# Altium schematic symbol library Arduino_Uno_v1.SchLib: 34 symbols
Pins are listed as number, name and electrical type; pins without a type are passive.

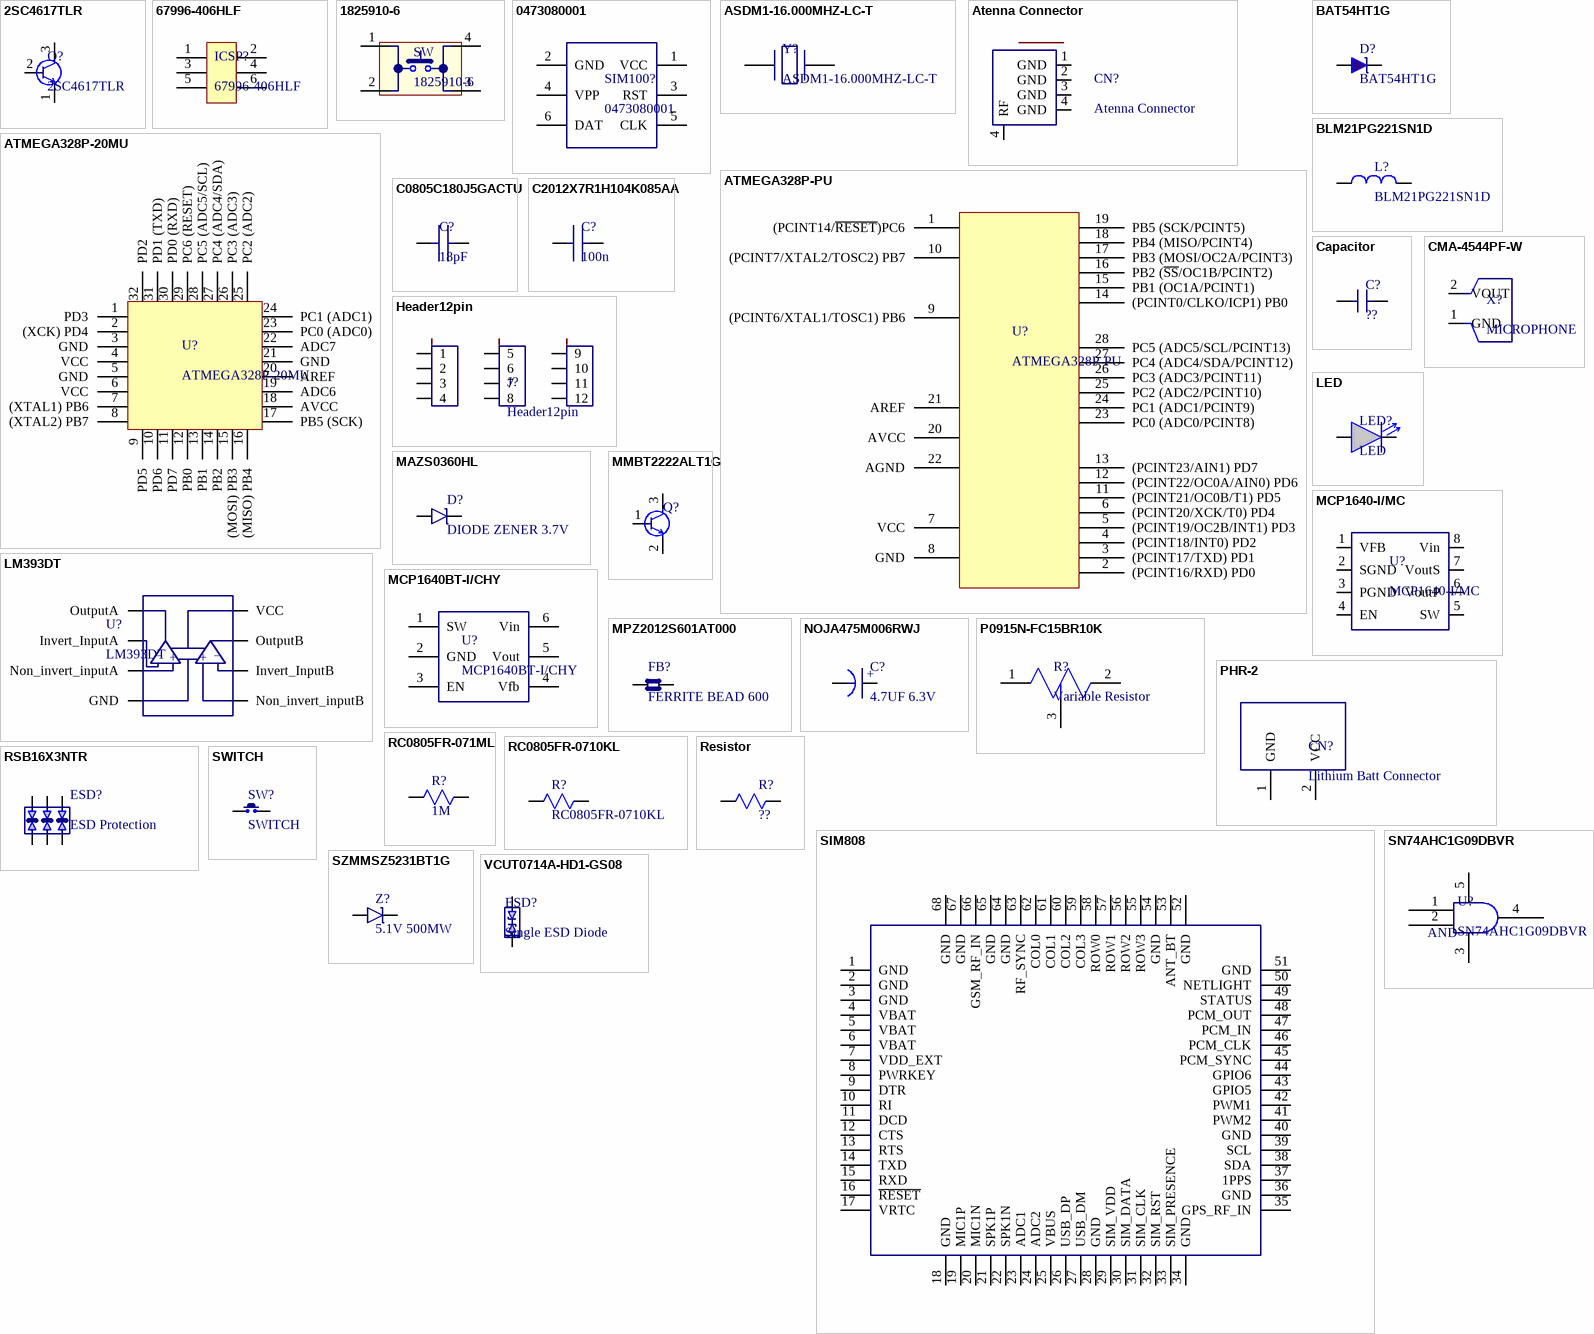
[diagram p0: symbols 2SC4617TLR to VCUT0714A-HD1-GS08]

## 2SC4617TLR
designator Q?
TRANS NPN 50V 0.15A SOT-416; Manufacturer: Rohm Semiconductor; Current - Collector (Ic) (Max): 150mA; Vce Saturation (Max) @ Ib, Ic: 400mV @ 5mA, 50mA; Current - Collector Cutoff (Max): 100nA (ICBO); DC Current Gain (hFE) (Min) @ Ic, Vce: 180 @ 1mA, 6V; Power - Max: 150mW; Frequency - Transition: 180MHz; Supplier 1: Digi-Key; Manufacturer Part Number: 2SC4617TLR; RoHS: RoHS Compliant; Category: Discrete Semiconductor Products; Stock 1: 15000; Pricing 1: 3000=0.05313, 6000=0.0462, 15000=0.03927, 30000=0.03696, 75000=0.03465, 150000=0.03003 (USD); Packaging: Tape & Reel (TR); Part Status: Active; Transistor Type: NPN; Voltage - Collector Emitter Breakdown (Max): 50V; Operating Temperature: 150°C (TJ); Mounting Type: Surface Mount; Package / Case: SC-75, SOT-416; Supplier Device Package: EMT3; ComponentLink1URL: http://rohmfs.rohm.com/en/products/databook/datasheet/discrete/transistor/bipolar/2sc2412kt146q-e.pdf; ComponentLink1Description: http://rohmfs.rohm.com/en/products/databook/datasheet/discrete/transistor/bipolar/2sc2412kt146q-e.pdf; Supplier Part Number 1: 2SC4617TLRTR-ND
pins: 1, 2, 3

## 67996-406HLF
designator ICSP?
CONN HEADER 6POS .100 STR TIN; Manufacturer: Amphenol FCI; Pitch - Mating: 0.100" (2.54mm); Style: Board to Board; Shrouding: Unshrouded; Number of Positions: 6; Number of Positions Loaded: All; Contact Length - Mating: 0.230" (5.84mm); Contact Length - Post: 0.095" (2.41mm); Overall Contact Length: 0.425" (10.80mm); Material Flammability Rating: UL94 V-0; Supplier 1: Digi-Key; Manufacturer Part Number: 67996-406HLF; RoHS: RoHS Compliant; Category: Connectors, Interconnects; Stock 1: 18877; Pricing 1: 1=0.27, 10=0.258, 100=0.1803, 500=0.15456, 1000=0.1288, 5000=0.1104, 10000=0.10304 (USD); Packaging: Bulk; Part Status: Active; Connector Type: Header; Contact Type: Male Pin; Number of Rows: 2; Row Spacing - Mating: 0.100" (2.54mm); Mounting Type: Through Hole; Termination: Solder; Fastening Type: -; Insulation Height: 0.100" (2.54mm); Contact Shape: Square; Contact Finish - Mating: Tin; Contact Finish Thickness - Mating: 100µin (2.54µm); Contact Finish - Post: Tin; Contact Material: Phosphor Bronze; Insulation Material: -; Features: -; Operating Temperature: -; Ingress Protection: -; Insulation Color: Black; Current Rating: -; Voltage Rating: -; Mated Stacking Heights: -; Contact Finish Thickness - Post: -; Applications: -; ComponentLink1URL: http://portal.fciconnect.com/Comergent//fci/drawing/67996.pdf; ComponentLink1Description: http://portal.fciconnect.com/Comergent//fci/drawing/67996.pdf; Supplier Part Number 1: 609-3218-ND
pins: 1 MISO, 2, 3, 4, 5, 6

## 1825910-6
designator SW
SWITCH TACTILE SPST-NO 0.05A 24V; Manufacturer: TE Connectivity ALCOSWITCH Switches; Switch Function: Off-Mom; Contact Rating @ Voltage: 0.05A @ 24VDC; Actuator Type: Standard; Actuator Height off PCB, Vertical: 5.00mm; Actuator Orientation: Top Actuated; Outline: 6.00mm x 6.00mm; Illumination: Non-Illuminated; Operating Force: 160gf; Actuator Material: Polybutylene Terephthalate (PBT); Switch Travel: 0.25mm; Mechanical Life: 100,000 Cycles; Supplier 1: Digi-Key; Manufacturer Part Number: 1825910-6; RoHS: RoHS Compliant; Category: Switches; Stock 1: 99237; Pricing 1: 1=0.1, 10=0.088, 25=0.0856, 50=0.0824, 100=0.0778, 250=0.07324, 500=0.07018, 1000=0.0534, 5000=0.04425 (USD); Packaging: Bulk; Part Status: Active; Circuit: SPST-NO; Mounting Type: Through Hole; Actuator Length, Right Angle: -; Termination Style: PC Pin; Illumination Type, Color: -; Illumination Voltage (Nominal): -; Ingress Protection: -; Features: -; Operating Temperature: -35°C ~ 85°C; ComponentLink1URL: http://www.te.com/commerce/DocumentDelivery/DDEController?Action=srchrtrv&DocNm=1825910&DocType=Customer+Drawing&DocLang=English; ComponentLink1Description: http://www.te.com/commerce/DocumentDelivery/DDEController?Action=srchrtrv&DocNm=1825910&DocType=Customer+Drawing&DocLang=English; Supplier Part Number 1: 450-1650-ND
pins: 1, 2, 3, 4

## 0473080001
designator SIM100?
CONN SIM CARD PUSH-PULL R/A SMD; Manufacturer: Molex, LLC; Number of Positions: 6; Connector Type: Connector; Insertion, Removal Method: Push In, Pull Out; Supplier 1: Digi-Key; Manufacturer Part Number: 0473080001; RoHS: RoHS Compliant; Category: Connectors, Interconnects; Stock 1: 12000; Pricing 1: 1000=0.2772, 2000=0.2688, 3000=0.252, 5000=0.2436, 10000=0.2268, 25000=0.2184 (USD); Packaging: Tape & Reel (TR); Part Status: Active; Card Type: SIM Card; Ejector Side: -; Mounting Type: Surface Mount, Right Angle; Features: -; Height Above Board: 0.079" (2.00mm); Mounting Feature: Normal, Standard - Top; Contact Finish: Gold; Contact Finish Thickness: 19.7µin (0.50µm); ComponentLink1URL: http://www.molex.com/pdm_docs/sd/473080001_sd.pdf; ComponentLink1Description: http://www.molex.com/pdm_docs/sd/473080001_sd.pdf; Supplier Part Number 1: WM6699TR-ND
pins: 1 VCC, 2 GND, 3 RST, 4 VPP, 5 CLK, 6 DAT

## ASDM1-16.000MHZ-LC-T
designator Y?
OSC MEMS 16.000MHZ CMOS SMD; Manufacturer: Abracon LLC; Frequency: 16MHz; Function: Standby (Power Down); Output: LVCMOS; Voltage - Supply: 3.3V; Frequency Stability: ±50ppm; Current - Supply (Max): 10mA; Current - Supply (Disable) (Max): 10µA; Supplier 1: Digi-Key; Manufacturer Part Number: ASDM1-16.000MHZ-LC-T; RoHS: RoHS Compliant; Category: Crystals, Oscillators, Resonators; Stock 1: 1000; Pricing 1: 1000=1.1505, 3000=1.092, 5000=1.053 (USD); Packaging: Tape & Reel (TR); Part Status: Active; Type: MEMS (Silicon); Operating Temperature: -40°C ~ 85°C; Ratings: -; Mounting Type: Surface Mount; Package / Case: 4-SMD, No Lead; Size / Dimension: 0.098" L x 0.079" W (2.50mm x 2.00mm); Height - Seated (Max): 0.035" (0.90mm); ComponentLink1URL: http://www.abracon.com/Oscillators/ASDM.pdf; ComponentLink1Description: http://www.abracon.com/Oscillators/ASDM.pdf; Supplier Part Number 1: 535-9787-2-ND
pins: 1, 2

## Atenna Connector
designator CN?
pins: 1 GND, 2 GND, 3 GND, 4 GND, 4 RF

## ATMEGA328P-20MU
designator U?
IC MCU 8BIT 32KB FLASH 32SMD; Manufacturer: Microchip Technology; Manufacturer Part Number: ATMEGA328P-PU; Core Processor: AVR; Core Size: 8-Bit; Speed: 20MHz; Connectivity: I²C, SPI, UART/USART; Peripherals: Brown-out Detect/Reset, POR, PWM, WDT; Number of I/O: 23; Program Memory Size: 32KB (16K x 16); EEPROM Size: 1K x 8; RAM Size: 2K x 8; Voltage - Supply (Vcc/Vdd): 1.8 V ~ 5.5 V; Data Converters: A/D 6x10b; Oscillator Type: Internal; Supplier 1: Digi-Key; RoHS: RoHS Compliant; Category: Integrated Circuits (ICs); Stock 1: 17084; Pricing 1: 1=2.14, 25=1.9672, 100=1.7819 (USD); Packaging: Tube; Part Status: Active; Program Memory Type: FLASH; Operating Temperature: -40°C ~ 85°C (TA); Package / Case: 28-DIP (0.300", 7.62mm); Supplier Device Package: 28-PDIP; ComponentLink1URL: http://www.atmel.com/images/atmel-8271-8-bit-avr-microcontroller-atmega48a-48pa-88a-88pa-168a-168pa-328-328p_datasheet_summary.pdf; ComponentLink1Description: http://www.atmel.com/images/atmel-8271-8-bit-avr-microcontroller-atmega48a-48pa-88a-88pa-168a-168pa-328-328p_datasheet_summary.pdf; Supplier Part Number 1: ATMEGA328P-PU-ND
pins: 1 PD3, 2 (XCK) PD4, 3 GND, 4 VCC, 5 GND, 6 VCC, 7 (XTAL1) PB6, 8 (XTAL2) PB7, 9 PD5, 10 PD6, 11 PD7, 12 PB0, 13 PB1, 14 PB2, 15 (MOSI) PB3, 16 (MISO) PB4, 17 PB5 (SCK) , 18 AVCC, 19 ADC6, 20 AREF, 21 GND, 22 ADC7, 23 PC0 (ADC0) , 24 PC1 (ADC1) , 25 PC2 (ADC2)  , 26 PC3 (ADC3), 27 PC4 (ADC4/SDA)   , 28 PC5 (ADC5/SCL) , 29 PC6 (RESET) , 30 PD0 (RXD), 31 PD1 (TXD) , 32 PD2

## ATMEGA328P-PU
designator U?
IC MCU 8BIT 32KB FLASH 28DIP; Manufacturer: Microchip Technology; Core Processor: AVR; Core Size: 8-Bit; Speed: 20MHz; Connectivity: I²C, SPI, UART/USART; Peripherals: Brown-out Detect/Reset, POR, PWM, WDT; Number of I/O: 23; Program Memory Size: 32KB (16K x 16); EEPROM Size: 1K x 8; RAM Size: 2K x 8; Voltage - Supply (Vcc/Vdd): 1.8 V ~ 5.5 V; Data Converters: A/D 6x10b; Oscillator Type: Internal; Supplier 1: Digi-Key; Manufacturer Part Number: ATMEGA328P-PU; RoHS: RoHS Compliant; Category: Integrated Circuits (ICs); Stock 1: 17084; Pricing 1: 1=2.14, 25=1.9672, 100=1.7819 (USD); Packaging: Tube; Part Status: Active; Program Memory Type: FLASH; Operating Temperature: -40°C ~ 85°C (TA); Package / Case: 28-DIP (0.300", 7.62mm); Supplier Device Package: 28-PDIP; ComponentLink1URL: http://www.atmel.com/images/atmel-8271-8-bit-avr-microcontroller-atmega48a-48pa-88a-88pa-168a-168pa-328-328p_datasheet_summary.pdf; ComponentLink1Description: http://www.atmel.com/images/atmel-8271-8-bit-avr-microcontroller-atmega48a-48pa-88a-88pa-168a-168pa-328-328p_datasheet_summary.pdf; Supplier Part Number 1: ATMEGA328P-PU-ND
footprint 28_DIP_ATmega48A_PU
pins: 1 (PCINT14/~{RESET})PC6, 2 (PCINT16/RXD) PD0, 3 (PCINT17/TXD) PD1, 4 (PCINT18/INT0) PD2, 5 (PCINT19/OC2B/INT1) PD3, 6 (PCINT20/XCK/T0) PD4, 7 VCC, 8 GND, 9 (PCINT6/XTAL1/TOSC1) PB6, 10 (PCINT7/XTAL2/TOSC2) PB7, 11 (PCINT21/OC0B/T1) PD5, 12 (PCINT22/OC0A/AIN0) PD6, 13 (PCINT23/AIN1) PD7, 14 (PCINT0/CLKO/ICP1) PB0, 15 PB1 (OC1A/PCINT1), 16 PB2 (~{SS}/OC1B/PCINT2), 17 PB3 (MOSI/OC2A/PCINT3), 18 PB4 (MISO/PCINT4), 19 PB5 (SCK/PCINT5), 20 AVCC, 21 AREF, 22 AGND, 23 PC0 (ADC0/PCINT8), 24 PC1 (ADC1/PCINT9), 25 PC2 (ADC2/PCINT10), 26 PC3 (ADC3/PCINT11), 27 PC4 (ADC4/SDA/PCINT12), 28 PC5 (ADC5/SCL/PCINT13)

## BAT54HT1G
designator D?
DIODE SCHOTTKY 30V 200MA SOD323; Manufacturer: ON Semiconductor; Current - Average Rectified (Io): 200mA (DC); Voltage - Forward (Vf) (Max) @ If: 800mV @ 100mA; Speed: Small Signal =< 200mA (Io), Any Speed; Current - Reverse Leakage @ Vr: 2µA @ 25V; Capacitance @ Vr, F: 10pF @ 1V, 1MHz; Supplier 1: Digi-Key; Manufacturer Part Number: BAT54HT1G; RoHS: RoHS Compliant; Category: Discrete Semiconductor Products; Stock 1: 90000; Pricing 1: 3000=0.05237, 6000=0.04554, 15000=0.03871, 30000=0.03643, 75000=0.03416, 150000=0.0296 (USD); Packaging: Tape & Reel (TR); Part Status: Active; Diode Type: Schottky; Voltage - DC Reverse (Vr) (Max): 30V; Mounting Type: Surface Mount; Package / Case: SC-76, SOD-323; Supplier Device Package: SOD-323; Operating Temperature - Junction: -55°C ~ 150°C; ComponentLink1URL: http://www.onsemi.com/pub_link/Collateral/BAT54HT1-D.PDF; ComponentLink1Description: http://www.onsemi.com/pub_link/Collateral/BAT54HT1-D.PDF; Supplier Part Number 1: BAT54HT1GOSTR-ND
pins: 1 Cathode, 2 Anode

## BLM21PG221SN1D
designator L?
FERRITE BEAD 220 OHM 0805 1LN; Manufacturer: Murata Electronics North America; Filter Type: Power Line; Number of Lines: 1; Impedance @ Frequency: 220 Ohm @ 100MHz; Current Rating (Max): 2A; DC Resistance (DCR) (Max): 45 mOhm; Supplier 1: Digi-Key; Manufacturer Part Number: BLM21PG221SN1D; RoHS: RoHS Compliant; Category: Filters; Stock 1: 897655; Pricing 1: 1=0.1, 10=0.081, 25=0.0732, 50=0.0538, 100=0.0464, 250=0.03664, 500=0.03094, 1000=0.02605 (USD); Packaging: Cut Tape (CT); Part Status: Active; Ratings: -; Operating Temperature: -55°C ~ 125°C; Package / Case: 0805 (2012 Metric); Mounting Type: Surface Mount; Height (Max): 0.041" (1.05mm); Size / Dimension: 0.079" L x 0.049" W (2.00mm x 1.25mm); ComponentLink1URL: http://www.murata.com/en-us/products/productdata/8796738977822/ENFA0005.pdf; ComponentLink1Description: http://www.murata.com/en-us/products/productdata/8796738977822/ENFA0005.pdf; Supplier Part Number 1: 490-1054-1-ND
pins: 1, 2

## C0805C180J5GACTU
designator C?, comment 18pF
CAP CER 18PF 50V C0G/NP0 0805; Manufacturer: KEMET; Manufacturer Part Number: C0805C180J5GACTU; Tolerance: ±5%; Temperature Coefficient: C0G, NP0; Supplier 1: Digi-Key; RoHS: RoHS Compliant; Category: Capacitors; Stock 1: 179478; Pricing 1: 1=0.11, 10=0.076, 100=0.0357, 500=0.02504, 1000=0.02073 (USD); Packaging: Cut Tape (CT); Part Status: Active; Capacitance: 18pF; Voltage - Rated: 50V; Operating Temperature: -55°C ~ 125°C; Features: Low ESL; Ratings: -; Applications: General Purpose; Failure Rate: -; Mounting Type: Surface Mount, MLCC; Package / Case: 0805 (2012 Metric); Size / Dimension: 0.079" L x 0.049" W (2.00mm x 1.25mm); Height - Seated (Max): -; Thickness (Max): 0.035" (0.88mm); Lead Spacing: -; Lead Style: -; ComponentLink1URL: http://www.kemet.com/docfinder?Partnumber=C0805C180J5GACTU; ComponentLink1Description: http://www.kemet.com/docfinder?Partnumber=C0805C180J5GACTU; Supplier Part Number 1: 399-1112-1-ND
pins: 1, 2

## C2012X7R1H104K085AA
designator C?, comment 100n
CAP CER 0.1UF 50V X7R 0805; Manufacturer: TDK Corporation; Manufacturer Part Number: C2012X7R1H104K085AA; Capacitance: 0.1µF; Tolerance: ±10%; Supplier 1: Digi-Key; RoHS: RoHS Compliant; Category: Capacitors; Stock 1: 730772; Pricing 1: 1=0.11, 10=0.078, 100=0.0368, 1000=0.02134 (USD); Packaging: Cut Tape (CT); Part Status: Not For New Designs; Voltage - Rated: 50V; Temperature Coefficient: X7R; Operating Temperature: -55°C ~ 125°C; Features: Low ESL; Ratings: -; Applications: General Purpose; Failure Rate: -; Mounting Type: Surface Mount, MLCC; Package / Case: 0805 (2012 Metric); Size / Dimension: 0.079" L x 0.049" W (2.00mm x 1.25mm); Height - Seated (Max): -; Thickness (Max): 0.037" (0.95mm); Lead Spacing: -; Lead Style: -; ComponentLink1URL: https://product.tdk.com/info/en/catalog/datasheets/mlcc_commercial_general_en.pdf; ComponentLink1Description: https://product.tdk.com/info/en/catalog/datasheets/mlcc_commercial_general_en.pdf; Supplier Part Number 1: 445-7534-1-ND
pins: 1, 2

## Capacitor
designator C?, comment ??
Capacitor
pins: 1, 2

## CMA-4544PF-W
designator X?, comment MICROPHONE
MIC COND ANALOG OMNI -44DB; Manufacturer: CUI Inc.; Manufacturer Part Number: CMA-4544PF-W; Direction: Omnidirectional; Frequency Range: 20Hz ~ 20kHz; Sensitivity: -44dB ±2dB @ 94dB SPL; S/N Ratio: 60dB; Impedance: 2.2 kOhm; Voltage Range: 3 ~ 10V; Current - Supply: 500µA; Port Location: Top; Shape: Circular; Supplier 1: Digi-Key; RoHS: RoHS Compliant; Category: Audio Products; Stock 1: 40210; Pricing 1: 1=0.82, 10=0.708, 25=0.5692, 50=0.506, 100=0.4428, 250=0.43012, 500=0.41746, 1000=0.3795, 5000=0.34155 (USD); Packaging: Bulk; Part Status: Active; Type: Electret Condenser; Output Type: Analog; Voltage - Rated: -; Termination: PC Pins; Size / Dimension: 0.382" Dia (9.70mm); Height (Max): 0.183" (4.65mm); ComponentLink1URL: http://www.cui.com/product/resource/digikeypdf/cma-4544pf-w.pdf; ComponentLink1Description: http://www.cui.com/product/resource/digikeypdf/cma-4544pf-w.pdf; Supplier Part Number 1: 102-1721-ND
pins: 1 GND, 2 VOUT

## Header12pin
designator J?
Software UART Jumper
pins: 1, 2, 3, 4, 5, 6, 7, 8, 9, 10, 11, 12

## LED
designator LED?
pins: 1, 2

## LM393DT
designator U?
IC COMPARATOR LP DUAL 8-SOIC; Manufacturer: STMicroelectronics; Output Type: CMOS, DTL, ECL, MOS, Open-Collector, TTL; Voltage - Supply, Single/Dual (±): 2 V ~ 36 V, ±1 V ~ 18 V; Voltage - Input Offset (Max): 5mV @ 30V; Current - Input Bias (Max): 0.25µA @ 5V; Current - Output (Typ): 18mA @ 5V; Current - Quiescent (Max): 2.5mA; Supplier 1: Digi-Key; Manufacturer Part Number: LM393DT; RoHS: RoHS Compliant; Category: Integrated Circuits (ICs); Stock 1: 28706; Pricing 1: 1=0.39, 10=0.295, 100=0.184, 500=0.12586, 1000=0.09682 (USD); Packaging: Cut Tape (CT); Part Status: Active; Type: General Purpose; CMRR, PSRR (Typ): -; Propagation Delay (Max): -; Hysteresis: -; Operating Temperature: 0°C ~ 70°C; Package / Case: 8-SOIC (0.154", 3.90mm Width); Mounting Type: Surface Mount; Supplier Device Package: 8-SO; ComponentLink1URL: http://www.st.com/content/ccc/resource/technical/document/datasheet/group1/b4/cc/cf/13/18/28/44/f5/CD00000465/files/CD00000465.pdf/jcr:content/translations/en.CD00000465.pdf; ComponentLink1Description: http://www.st.com/content/ccc/resource/technical/document/datasheet/group1/b4/cc/cf/13/18/28/44/f5/CD00000465/files/CD00000465.pdf/jcr:content/translations/en.CD00000465.pdf; Supplier Part Number 1: 497-1593-1-ND
pins: 1 OutputA, 2 Invert_InputA, 3 Non_invert_inputA, 4 GND, 5 Non_invert_inputB, 6 Invert_InputB, 8 OutputB, 8 VCC
text: _; +

## MAZS0360HL
designator D?, comment DIODE ZENER 3.7V
DIODE ZENER 3.7V 150MW SSMINI2; Manufacturer: Panasonic Electronic Components; Manufacturer Part Number: MAZS0360HL; Tolerance: ±3%; Current - Reverse Leakage @ Vr: 10µA @ 1V; Voltage - Forward (Vf) (Max) @ If: 1V @ 10mA; Supplier 1: Digi-Key; RoHS: RoHS Compliant; Category: Discrete Semiconductor Products; Stock 1: 0; Pricing 1: 3000=0 (USD); Packaging: Tape & Reel (TR); Part Status: Obsolete; Power - Max: 150mW; Operating Temperature: -; Mounting Type: Surface Mount; Package / Case: SC-79, SOD-523; Supplier Device Package: SSMini2-F1; ComponentLink1URL: http://media.digikey.com/pdf/Data%20Sheets/Panasonic%20Semiconductors%20ICs%20PDFs/MAZSzzz_Series_Rev_Nov_2011.pdf; ComponentLink1Description: http://media.digikey.com/pdf/Data%20Sheets/Panasonic%20Semiconductors%20ICs%20PDFs/MAZSzzz_Series_Rev_Nov_2011.pdf; Supplier Part Number 1: MAZS0360HLTR-ND
pins: 1, 1

## MCP1640-I/MC
designator U?
IC REG BOOST ADJ 0.35A SYNC 8DFN; Manufacturer: Microchip Technology; Function: Step-Up; Output Configuration: Positive; Output Type: Adjustable; Number of Outputs: 1; Voltage - Input (Min): 0.8V; Voltage - Input (Max): 5.5V; Voltage - Output (Min/Fixed): 2V; Current - Output: 350mA; Frequency - Switching: 500kHz; Synchronous Rectifier: Yes; Supplier 1: Digi-Key; Manufacturer Part Number: MCP1640-I/MC; RoHS: RoHS Compliant; Category: Integrated Circuits (ICs); Stock 1: 0; Pricing 1: 1=0.63, 25=0.5152, 100=0.4738 (USD); Packaging: Tube; Part Status: Active; Topology: Boost; Voltage - Output (Max): 5.5V; Operating Temperature: -40°C ~ 125°C (TJ); Mounting Type: Surface Mount; Package / Case: 8-VFDFN Exposed Pad; Supplier Device Package: 8-DFN (3x2); ComponentLink1URL: http://www.microchip.com/mymicrochip/filehandler.aspx?ddocname=en547085; ComponentLink1Description: http://www.microchip.com/mymicrochip/filehandler.aspx?ddocname=en547085; Supplier Part Number 1: MCP1640-I/MC-ND
pins: 1 VFB, 2 SGND, 3 PGND, 4 EN, 5 SW, 6 VoutP, 7 VoutS, 8 Vin

## MCP1640BT-I/CHY
designator U?
IC REG BST ADJ 0.35A SYNC SOT23; Manufacturer: Microchip Technology; Function: Step-Up; Output Configuration: Positive; Topology: Boost; Output Type: Adjustable; Number of Outputs: 1; Voltage - Input (Min): 0.8V; Voltage - Input (Max): 5.5V; Voltage - Output (Min/Fixed): 2V; Current - Output: 350mA; Frequency - Switching: 500kHz; Synchronous Rectifier: Yes; Supplier 1: Digi-Key; Manufacturer Part Number: MCP1640BT-I/CHY; RoHS: RoHS Compliant; Category: Integrated Circuits (ICs); Stock 1: 7770; Pricing 1: 1=0.59, 25=0.4944, 100=0.4532 (USD); Packaging: Cut Tape (CT); Part Status: Active; Voltage - Output (Max): 5.5V; Operating Temperature: -40°C ~ 125°C (TJ); Mounting Type: Surface Mount; Package / Case: SOT-23-6; Supplier Device Package: SOT-23-6; ComponentLink1URL: http://www.microchip.com/mymicrochip/filehandler.aspx?ddocname=en547085; ComponentLink1Description: http://www.microchip.com/mymicrochip/filehandler.aspx?ddocname=en547085; Supplier Part Number 1: MCP1640BT-I/CHYCT-ND
pins: 1 SW, 2 GND, 3 EN, 4 Vfb, 5 Vout, 6 Vin

## MMBT2222ALT1G
designator Q?, comment TRANS NPN  (value not drawn)
TRANS NPN 40V 0.6A SOT23; Manufacturer: ON Semiconductor; Manufacturer Part Number: MMBT2222ALT1G; Current - Collector (Ic) (Max): 600mA; Vce Saturation (Max) @ Ib, Ic: 1V @ 50mA, 500mA; Current - Collector Cutoff (Max): 10nA (ICBO); DC Current Gain (hFE) (Min) @ Ic, Vce: 100 @ 150mA, 10V; Power - Max: 225mW; Frequency - Transition: 300MHz; Supplier 1: Digi-Key; RoHS: RoHS Compliant; Category: Discrete Semiconductor Products; Stock 1: 786000; Pricing 1: 3000=0.01913, 6000=0.01726, 15000=0.015, 30000=0.0135, 75000=0.012, 150000=0.00998 (USD); Packaging: Tape & Reel (TR); Part Status: Active; Transistor Type: NPN; Voltage - Collector Emitter Breakdown (Max): 40V; Operating Temperature: -55°C ~ 150°C (TJ); Mounting Type: Surface Mount; Package / Case: TO-236-3, SC-59, SOT-23-3; Supplier Device Package: SOT-23; ComponentLink1URL: http://www.onsemi.com/pub_link/Collateral/MMBT2222LT1-D.PDF; ComponentLink1Description: http://www.onsemi.com/pub_link/Collateral/MMBT2222LT1-D.PDF; Supplier Part Number 1: MMBT2222ALT1GOSTR-ND
pins: 1, 2, 3

## MPZ2012S601AT000
designator FB?, comment FERRITE BEAD 600
FERRITE BEAD 600 OHM 0805 1LN; Manufacturer: TDK Corporation; Manufacturer Part Number: MPZ2012S601AT000; Filter Type: Power Line; Number of Lines: 1; Impedance @ Frequency: 600 Ohm @ 100MHz; Current Rating (Max): 2A; DC Resistance (DCR) (Max): 100 mOhm; Supplier 1: Digi-Key; RoHS: RoHS Compliant; Category: Filters; Stock 1: 366929; Pricing 1: 1=0.11, 10=0.091, 25=0.0704, 50=0.0584, 100=0.0503, 250=0.04028, 500=0.03624, 1000=0.0302 (USD); Packaging: Cut Tape (CT); Part Status: Active; Ratings: -; Operating Temperature: -55°C ~ 125°C; Package / Case: 0805 (2012 Metric); Mounting Type: Surface Mount; Height (Max): 0.041" (1.05mm); Size / Dimension: 0.079" L x 0.049" W (2.00mm x 1.25mm); ComponentLink1URL: https://product.tdk.com/info/en/catalog/datasheets/beads_commercial_power_mpz2012_en.pdf; ComponentLink1Description: https://product.tdk.com/info/en/catalog/datasheets/beads_commercial_power_mpz2012_en.pdf; Supplier Part Number 1: 445-2206-1-ND
pins: 1, 2

## NOJA475M006RWJ
designator C?, comment 4.7UF 6.3V
CAP NIOB OXI 4.7UF 20% 6.3V 1206; Manufacturer: AVX Corporation; Manufacturer Part Number: NOJA475M006RWJ; Manufacturer Size Code: A; Capacitance: 4.7µF; ESR (Equivalent Series Resistance): 3.2 Ohm; Current - Leakage: 1.1µA; Dissipation Factor: 6%; Supplier 1: Digi-Key; RoHS: RoHS Compliant; Category: Capacitors; Stock 1: 9083; Pricing 1: 1=0.53, 10=0.376, 100=0.2478, 500=0.18354, 1000=0.15601 (USD); Packaging: Cut Tape (CT); Part Status: Active; Tolerance: ±20%; Voltage - Rated: 6.3V; Mounting Type: Surface Mount; Package / Case: 1206 (3216 Metric); Height - Seated (Max): 0.071" (1.80mm); Features: -; Operating Temperature: -55°C ~ 105°C; Supplier Device Package: 1206 (3216 Metric); Size / Dimension: 0.126" L x 0.063" W (3.20mm x 1.60mm); ComponentLink1URL: http://datasheets.avx.com/NOJ.pdf; ComponentLink1Description: http://datasheets.avx.com/NOJ.pdf; Supplier Part Number 1: 478-3213-1-ND
pins: 1, 2
text: +

## P0915N-FC15BR10K
designator R?, comment Variable Resistor
POT 10K OHM 1/20W PLASTIC LINEAR; Manufacturer: TT Electronics/BI; Manufacturer Part Number: P0915N-FC15BR10K; Tolerance: ±20%; Built in Switch: None; Power (Watts): 0.05W, 1/20W; Number of Turns: 1; Rotation: 300°; Adjustment Type: Top Adjustment; Resistive Material: Conductive Plastic; Actuator Type: Flatted; Actuator Length: 0.591" (15.00mm); Actuator Diameter: 0.236" (6.00mm); Bushing Thread: M7 x 0.75; Supplier 1: Digi-Key; RoHS: RoHS Compliant; Category: Potentiometers, Variable Resistors; Stock 1: 35991; Pricing 1: 1=1.29, 10=1.14, 25=1.026, 50=0.988, 100=0.95, 250=0.893, 500=0.76, 1000=0.703, 5000=0.5776 (USD); Packaging: Tray; Part Status: Active; Taper: Linear; Resistance (Ohms): 10k; Temperature Coefficient: -; Termination Style: PC Pins, Board Locks; Mounting Type: Panel Mount; ComponentLink1URL: http://www.ttelectronics.com/sites/default/files/download-files/Datasheet_PanelPot_P09xSeries.pdf; ComponentLink1Description: http://www.ttelectronics.com/sites/default/files/download-files/Datasheet_PanelPot_P09xSeries.pdf; Supplier Part Number 1: 987-1649-ND
pins: 1, 2, 3

## PHR-2
designator CN?, comment Lithium Batt Connector
CONN HOUSING PH 2POS 2MM WHITE; Manufacturer: JST Sales America Inc.; Manufacturer Part Number: PHR-2; Connector Type: Receptacle; Number of Positions: 2; Pitch: 0.079" (2.00mm); Contact Termination: Crimp; Note: Contacts Not Included; Supplier 1: Digi-Key; RoHS: RoHS Compliant; Category: Connectors, Interconnects; Stock 1: 288735; Pricing 1: 1=0.1, 10=0.078, 25=0.0584, 50=0.05, 100=0.0484, 250=0.04172, 500=0.04004, 1000=0.03503, 2500=0.03169 (USD); Packaging: Bulk; Part Status: Active; Contact Type: Female Socket; Number of Rows: 1; Row Spacing: -; Mounting Type: Free Hanging (In-Line); Fastening Type: Detent Lock; Color: Natural; Features: -; ComponentLink1URL: http://www.jst-mfg.com/product/pdf/eng/ePH.pdf; ComponentLink1Description: http://www.jst-mfg.com/product/pdf/eng/ePH.pdf; Supplier Part Number 1: 455-1165-ND
pins: 1 GND, 2 VCC

## RC0805FR-071ML
designator R?, comment 1M
RES SMD 1M OHM 1% 1/8W 0805; Manufacturer: Yageo; Manufacturer Part Number: RC0805FR-071ML; Power (Watts): 0.125W, 1/8W; Temperature Coefficient: ±100ppm/°C; Supplier 1: Digi-Key; RoHS: RoHS Compliant; Category: Resistors; Stock 1: 932446; Pricing 1: 1=0.1, 10=0.021, 100=0.0084, 1000=0.00379, 2500=0.00329 (USD); Packaging: Cut Tape (CT); Part Status: Active; Resistance (Ohms): 1M; Tolerance: ±1%; Composition: Thick Film; Features: Moisture Resistant; Operating Temperature: -55°C ~ 155°C; Package / Case: 0805 (2012 Metric); Supplier Device Package: 0805; Size / Dimension: 0.079" L x 0.049" W (2.00mm x 1.25mm); Height - Seated (Max): 0.024" (0.60mm); Failure Rate: -; ComponentLink1URL: http://www.yageo.com/documents/recent/PYu-RC_Group_51_RoHS_L_7.pdf; ComponentLink1Description: http://www.yageo.com/documents/recent/PYu-RC_Group_51_RoHS_L_7.pdf; Supplier Part Number 1: 311-1.00MCRCT-ND
pins: 1, 2

## RC0805FR-0710KL
designator R?
RES SMD 10K OHM 1% 1/8W 0805; Manufacturer: Yageo; Power (Watts): 0.125W, 1/8W; Temperature Coefficient: ±100ppm/°C; Supplier 1: Digi-Key; Manufacturer Part Number: RC0805FR-0710KL; RoHS: RoHS Compliant; Category: Resistors; Stock 1: 6469211; Pricing 1: 1=0.1, 10=0.021, 100=0.0084, 1000=0.00379, 2500=0.00329 (USD); Packaging: Cut Tape (CT); Part Status: Active; Resistance (Ohms): 10k; Tolerance: ±1%; Composition: Thick Film; Features: Moisture Resistant; Operating Temperature: -55°C ~ 155°C; Package / Case: 0805 (2012 Metric); Supplier Device Package: 0805; Size / Dimension: 0.079" L x 0.049" W (2.00mm x 1.25mm); Height - Seated (Max): 0.024" (0.60mm); Failure Rate: -; ComponentLink1URL: http://www.yageo.com/documents/recent/PYu-RC_Group_51_RoHS_L_7.pdf; ComponentLink1Description: http://www.yageo.com/documents/recent/PYu-RC_Group_51_RoHS_L_7.pdf; Supplier Part Number 1: 311-10.0KCRCT-ND
pins: 1, 2

## Resistor
designator R?, comment ??
pins: 1, 2

## RSB16X3NTR
designator ESD?, comment ESD Protection
TVS DIODE 12VWM UMD6; Manufacturer: Rohm Semiconductor; Manufacturer Part Number: RSB16X3NTR; Voltage - Reverse Standoff (Typ): 12V; Voltage - Breakdown (Min): 14.4V; Power Line Protection: No; Capacitance @ Frequency: 30pF @ 1MHz; Supplier 1: Digi-Key; RoHS: RoHS Compliant; Category: Circuit Protection; Stock 1: 0; Pricing 1: 3000=0.14956 (USD); Packaging: Tape & Reel (TR); Part Status: Active; Type: Zener; Voltage - Clamping (Max) @ Ipp: -; Current - Peak Pulse (10/1000µs): -; Power - Peak Pulse: -; Applications: General Purpose; Operating Temperature: -; Mounting Type: Surface Mount; Package / Case: 6-TSSOP, SC-88, SOT-363; Supplier Device Package: UMD6; ComponentLink1URL: http://rohmfs.rohm.com/en/products/databook/datasheet/discrete/diode/zener/rsb16x3n.pdf; ComponentLink1Description: http://rohmfs.rohm.com/en/products/databook/datasheet/discrete/diode/zener/rsb16x3n.pdf; Supplier Part Number 1: RSB16X3NTR-ND
pins: 1, 2, 3, 4, 5, 6

## SIM808
designator U?
Module: GPS/GSM; GPRS; 2G; 1800MHz, 900MHz; GPIO, Serial, USB; SMD; MF: Simcom; Package: None; MP: SIM808; Availability: Unavailable; Price: 17.19 USD; Value: *
footprint QFN100P2400X2400X260-68N
pins: 1 GND, 2 GND, 3 GND, 4 VBAT (power), 5 VBAT (power), 6 VBAT (power), 7 VDD_EXT, 8 PWRKEY, 9 DTR, 10 RI, 11 DCD, 12 CTS, 13 RTS, 14 TXD, 15 RXD, 16 ~{RESET}, 17 VRTC (power), 18 GND, 19 MIC1P, 20 MIC1N, 21 SPK1P, 22 SPK1N, 23 ADC1, 24 ADC2, 25 VBUS, 26 USB_DP, 27 USB_DM, 28 GND, 29 SIM_VDD, 30 SIM_DATA, 31 SIM_CLK, 32 SIM_RST, 33 SIM_PRESENCE, 34 GND, 35 GPS_RF_IN, 36 GND, 37 1PPS, 38 SDA, 39 SCL, 40 GND, 41 PWM2, 42 PWM1, 43 GPIO5, 44 GPIO6, 45 PCM_SYNC, 46 PCM_CLK, 47 PCM_IN, 48 PCM_OUT, 49 STATUS, 50 NETLIGHT, 51 GND, 52 GND, 53 ANT_BT, 54 GND, 55 ROW3, 56 ROW2, 57 ROW1, 58 ROW0, 59 COL3, 60 COL2, 61 COL1, 62 COL0, 63 RF_SYNC, 64 GND, 65 GND, 66 GSM_RF_IN, 67 GND, 68 GND

## SN74AHC1G09DBVR
designator U?
IC GATE AND 1CH 2-INP SOT-23-5; Manufacturer: Texas Instruments; Logic Type: AND Gate; Number of Circuits: 1; Number of Inputs: 2; Voltage - Supply: 2 V ~ 5.5 V; Current - Quiescent (Max): 1µA; Current - Output High, Low: -, 8mA; Logic Level - Low: 0.5 V ~ 1.65 V; Logic Level - High: 1.5 V ~ 3.85 V; Max Propagation Delay @ V, Max CL: 7.5ns @ 5V, 50pF; Supplier 1: Digi-Key; Manufacturer Part Number: SN74AHC1G09DBVR; RoHS: RoHS Compliant; Category: Integrated Circuits (ICs); Stock 1: 20159; Pricing 1: 1=0.42, 10=0.314, 100=0.1957, 500=0.1339, 1000=0.103 (USD); Packaging: Cut Tape (CT); Part Status: Active; Features: Open Drain; Operating Temperature: -55°C ~ 125°C; Mounting Type: Surface Mount; Supplier Device Package: SOT-23-5; Package / Case: SC-74A, SOT-753; ComponentLink1URL: http://www.ti.com/lit/ds/symlink/sn74ahc1g09.pdf; ComponentLink1Description: http://www.ti.com/lit/ds/symlink/sn74ahc1g09.pdf; Supplier Part Number 1: 296-29202-1-ND
pins: 1, 2, 3, 4, 5
text: AND

## SWITCH
designator SW?
pins: 1, 1

## SZMMSZ5231BT1G
designator Z?, comment 5.1V 500MW
DIODE ZENER 500MW 5.1V SOD123; Manufacturer: ON Semiconductor; Manufacturer Part Number: SZMMSZ5231BT1G; Tolerance: ±5%; Current - Reverse Leakage @ Vr: 5µA @ 2V; Voltage - Forward (Vf) (Max) @ If: 900mV @ 10mA; Supplier 1: Digi-Key; RoHS: RoHS Compliant; Category: Discrete Semiconductor Products; Stock 1: 0; Pricing 1: 3000=0.066, 6000=0.0594, 15000=0.0528, 30000=0.0495, 75000=0.04389, 150000=0.04224 (USD); Packaging: Tape & Reel (TR); Part Status: Active; Power - Max: 500mW; Operating Temperature: -55°C ~ 150°C; Mounting Type: Surface Mount; Package / Case: SOD-123; Supplier Device Package: SOD-123; ComponentLink1URL: http://www.onsemi.com/pub_link/Collateral/MMSZ5221BT1-D.PDF; ComponentLink1Description: http://www.onsemi.com/pub_link/Collateral/MMSZ5221BT1-D.PDF; Supplier Part Number 1: SZMMSZ5231BT1GOSTR-ND
pins: 1 Cathode, 2 Anode

## VCUT0714A-HD1-GS08
designator ESD?, comment Single ESD Diode
TVS DIODE 7VWM/14VWM LLP10062L; Manufacturer: Vishay Semiconductor Diodes Division; Manufacturer Part Number: VCUT0714A-HD1-GS08; Voltage - Reverse Standoff (Typ): 7V, 14V; Voltage - Breakdown (Min): 7.3V, 14.5V; Voltage - Clamping (Max) @ Ipp: 17V, 30V; Current - Peak Pulse (10/1000µs): 5A, 2A (8/20µs); Power - Peak Pulse: 54W, 63W; Power Line Protection: No; Capacitance @ Frequency: 8pF @ 1MHz; Supplier 1: Digi-Key; RoHS: RoHS Compliant; Category: Circuit Protection; Stock 1: 56000; Pricing 1: 8000=0.0756, 16000=0.0672, 24000=0.063, 56000=0.05586 (USD); Packaging: Tape & Reel (TR); Part Status: Active; Type: Zener; Applications: General Purpose; Operating Temperature: -40°C ~ 125°C (TJ); Mounting Type: Surface Mount; Package / Case: SOD-882; Supplier Device Package: LLP1006-2L; ComponentLink1URL: http://www.vishay.com/docs/81801/vcut0714.pdf; ComponentLink1Description: http://www.vishay.com/docs/81801/vcut0714.pdf; Supplier Part Number 1: 751-1449-2-ND
pins: 1, 2